# EAGLE library part OLED_WHITE (library Display)
128x64 white SSD1306 display Graphic OLED (0.96 inch)
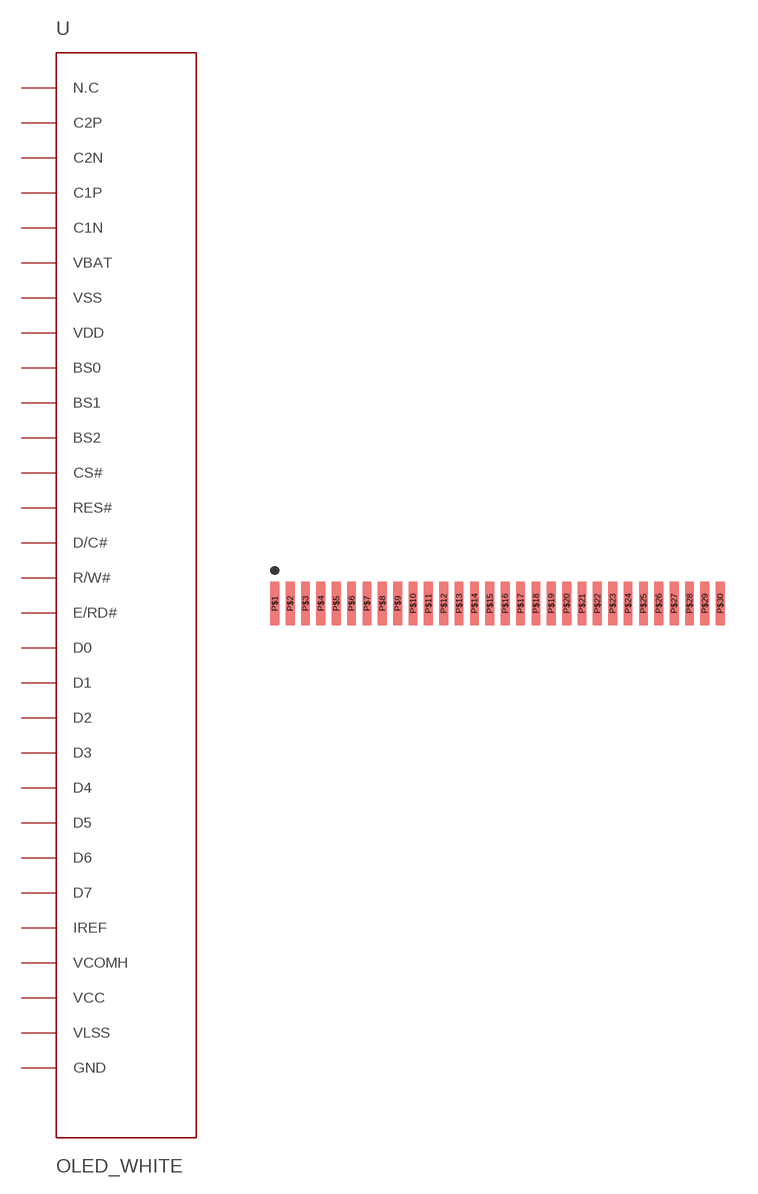
[diagram p0: symbol with the pads of 30PIN_0.7MM; footprint 30PIN_0.7MM]

Designator prefix U

## OLED_WHITE30PIN  [30PIN_0.7MM]
P$1  GND  pwr
P$2  C2P  pwr
P$3  C2N  pwr
P$4  C1P  pwr
P$5  C1N  pwr
P$6  VBAT  pwr
P$7  N.C  nc
P$8  VSS  pwr
P$9  VDD  pwr
P$10  BS0
P$11  BS1
P$12  BS2
P$13  CS#
P$14  RES#
P$15  D/C#
P$16  R/W#
P$17  E/RD#
P$18  D0
P$19  D1
P$20  D2
P$21  D3
P$22  D4
P$23  D5
P$24  D6
P$25  D7
P$26  IREF  pwr
P$27  VCOMH  pwr
P$28  VCC  pwr
P$29  VLSS  pwr
P$30  GND  pwr

## Footprint 30PIN_0.7MM (pad centres in mm)
smd 0.4 x 2: P$1 -10.2,0; P$2 -9.5,0; P$3 -8.8,0; P$4 -8.1,0; P$5 -7.4,0; P$6 -6.7,0; P$7 -6,0; P$8 -5.3,0; P$9 -4.6,0; P$10 -3.9,0; P$11 -3.2,0; P$12 -2.5,0; P$13 -1.8,0; P$14 -1.1,0; P$15 -0.4,0; P$16 0.3,0; P$17 1,0; P$18 1.7,0; P$19 2.4,0; P$20 3.1,0; P$21 3.8,0; P$22 4.5,0; P$23 5.2,0; P$24 5.9,0; P$25 6.6,0; P$26 7.3,0; P$27 8,0; P$28 8.7,0; P$29 9.4,0; P$30 10.1,0